# Altium schematic symbol library Switch-Touch.SchLib: 1 symbol
Pins are listed as number, name and electrical type; pins without a type are passive.

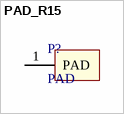
[diagram p0: symbol PAD_R15]

## PAD_R15
designator P?, comment PAD
触摸按键; Manufacturer_Name: *; Manufacturer_Part_Number: *; LCSC: *; Manufacturer_Name_1: *; Manufacturer_Part_Number_1: *
footprint PAD_R15 (直径15mm)
footprint PAD_R15_F8-10-8-0.4 (触摸弹簧 喇叭口 端面8，高度10，柱体8，线径0.4)
footprint PAD_R15_F9.2-5-8-0.4 (触摸弹簧 喇叭口 端面9.2，高度5，柱体8，线径0.4)
footprint PAD_R15_F10-7-6.5-0.4 (触摸弹簧 喇叭口 端面10，高度7，柱体6.5，线径0.4)
footprint PAD_R15_F10-8-7-0.4 (触摸弹簧 喇叭口 端面10，高度8，柱体7，线径0.4)
pins: 1 PAD